# Altium footprint library 10147606-0000xLF.PcbLib: 19 footprints (part 1 of 2)
Each footprint in its own frame and in the unit in brackets; x right, y up, seen from the top. Pads: shape width x height; smd on the part's side, far side on the other; paste and mask are expansions set on the pad; w line width, h text height; cw(c..) or ccw(c..) is an arc to the next point about the centre after c.
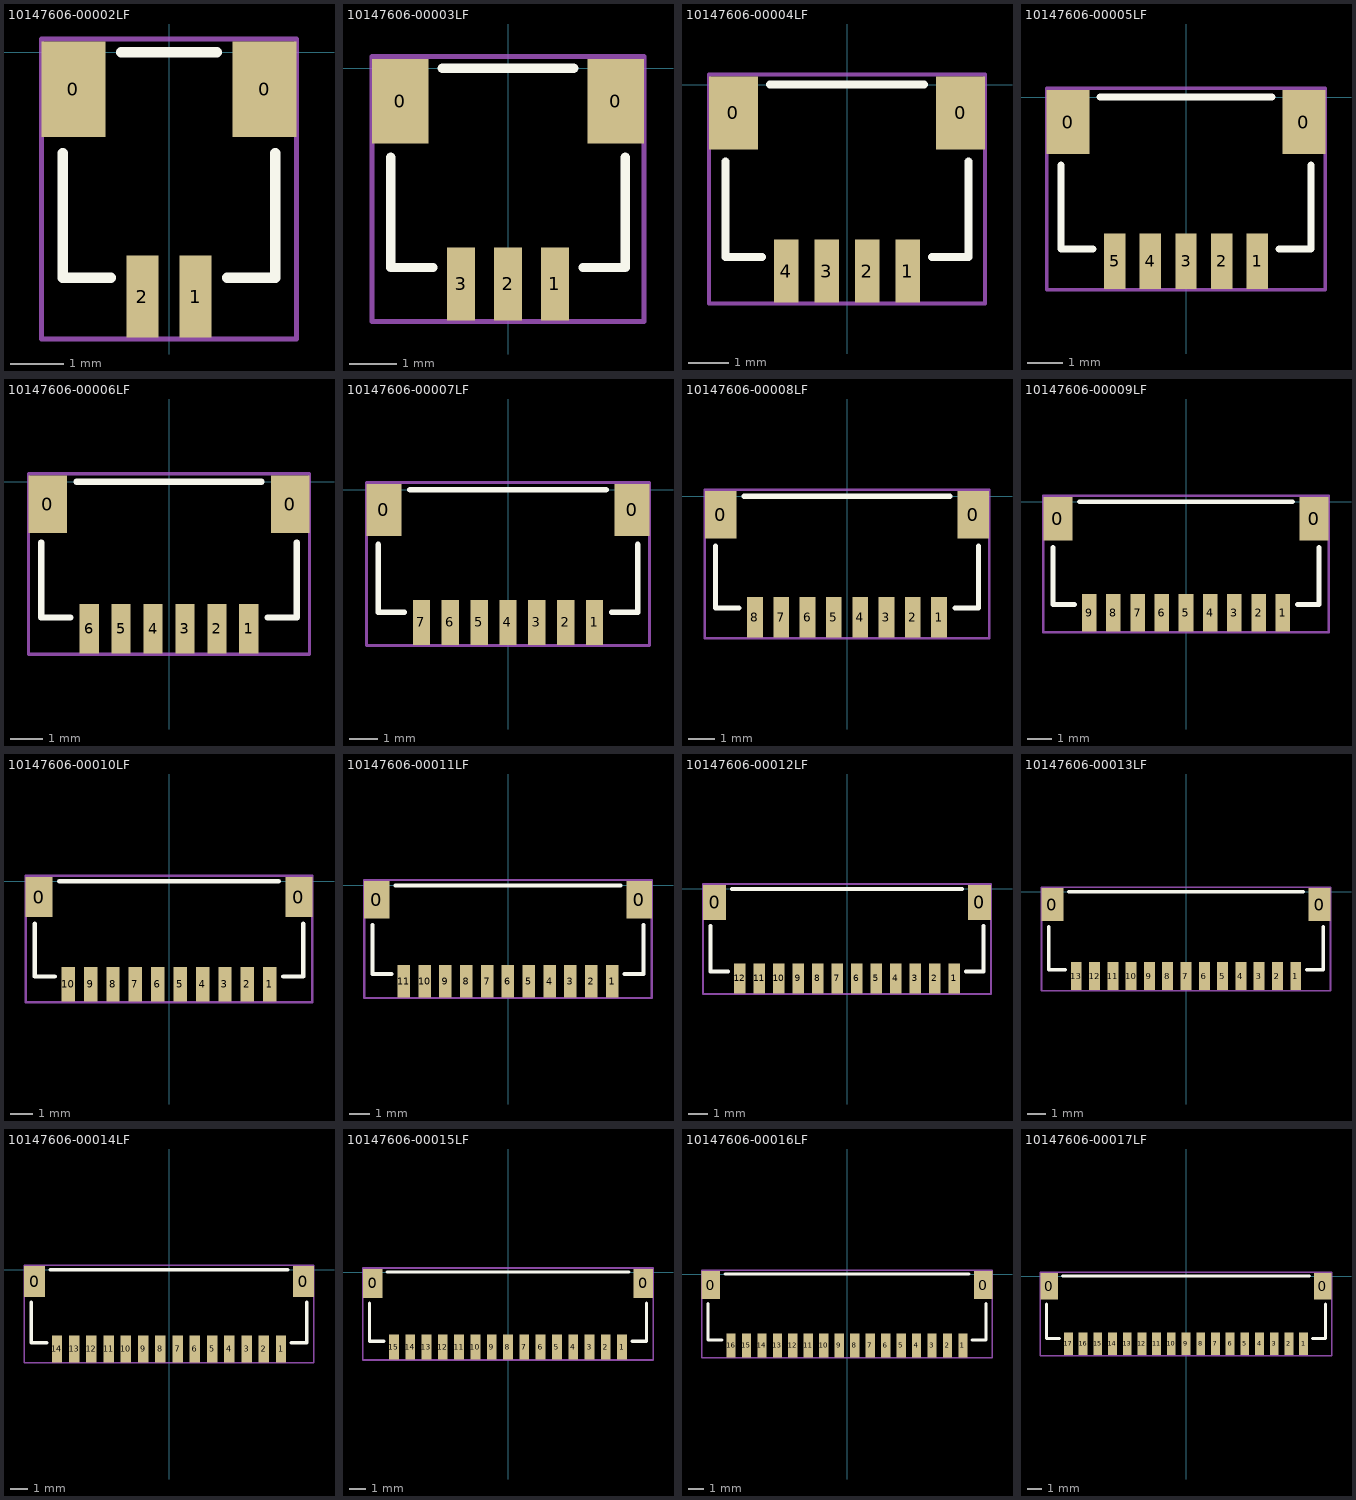
[diagram p0: the footprints below, top view; thin cyan lines are the x and y axes]

## 10147606-00002LF [mm]
pads (4):
  rect 1.2x1.8 smd: 0(-1.8,-0.7) 0(1.8,-0.7)
  rect 0.6x1.55 smd: 1(0.5,-4.6) 2(-0.5,-4.6)
Top Overlay:
  lines w0.2: -2,-1.9 -2,-4.25 -1.1,-4.25 ; -0.9,0 0.9,0 ; 1.1,-4.25 2,-4.25 2,-1.9
Border:
  lines w0.1: -2.4,-5.4 2.4,-5.4 2.4,0.25 -2.4,0.25 -2.4,-5.4
3D body "10147606-00002LF.stp": height 3, standoff 0, extent -2,-4.95 2,0

## 10147606-00003LF [mm]
pads (5):
  rect 1.2x1.8 smd: 0(-2.3,-0.7) 0(2.3,-0.7)
  rect 0.6x1.55 smd: 1(1,-4.6) 2(0,-4.6) 3(-1,-4.6)
Top Overlay:
  lines w0.2: -2.5,-1.9 -2.5,-4.25 -1.6,-4.25 ; -1.4,0 1.4,0 ; 1.6,-4.25 2.5,-4.25 2.5,-1.9
Border:
  lines w0.1: -2.9,-5.4 -2.9,0.25 2.9,0.25 2.9,-5.4 -2.9,-5.4
3D body "10147606-00003LF.stp": height 3, standoff 0, extent -2.5,-4.95 2.5,0

## 10147606-00004LF [mm]
pads (6):
  rect 1.2x1.8 smd: 0(-2.8,-0.7) 0(2.8,-0.7)
  rect 0.6x1.55 smd: 1(1.5,-4.6) 2(0.5,-4.6) 3(-0.5,-4.6) 4(-1.5,-4.6)
Top Overlay:
  lines w0.2: -3,-1.9 -3,-4.25 -2.1,-4.25 ; -1.9,0 1.9,0 ; 2.1,-4.25 3,-4.25 3,-1.9
Border:
  lines w0.1: -3.4,-5.4 -3.4,0.25 3.4,0.25 3.4,-5.4 -3.4,-5.4
3D body "10147606-00004LF.stp": height 3, standoff 0, extent -3,-4.95 3,0

## 10147606-00005LF [mm]
pads (7):
  rect 1.2x1.8 smd: 0(-3.3,-0.7) 0(3.3,-0.7)
  rect 0.6x1.55 smd: 1(2,-4.6) 2(1,-4.6) 3(0,-4.6) 4(-1,-4.6) 5(-2,-4.6)
Top Overlay:
  lines w0.2: -3.5,-1.9 -3.5,-4.25 -2.6,-4.25 ; -2.4,0 2.4,0 ; 2.6,-4.25 3.5,-4.25 3.5,-1.9
Border:
  lines w0.1: -3.9,-5.4 3.9,-5.4 3.9,0.25 -3.9,0.25 -3.9,-5.4
3D body "10147606-00005LF.stp": height 3, standoff 0, extent -3.5,-4.95 3.5,0

## 10147606-00006LF [mm]
pads (8):
  rect 1.2x1.8 smd: 0(-3.8,-0.7) 0(3.8,-0.7)
  rect 0.6x1.55 smd: 1(2.5,-4.6) 2(1.5,-4.6) 3(0.5,-4.6) 4(-0.5,-4.6) 5(-1.5,-4.6) 6(-2.5,-4.6)
Top Overlay:
  lines w0.2: -4,-1.9 -4,-4.25 -3.1,-4.25 ; -2.9,0 2.9,0 ; 3.1,-4.25 4,-4.25 4,-1.9
Border:
  lines w0.1: -4.4,-5.4 4.4,-5.4 4.4,0.25 -4.4,0.25 -4.4,-5.4
3D body "10147606-00006LF.stp": height 3, standoff 0, extent -4,-4.95 4,0

## 10147606-00007LF [mm]
pads (9):
  rect 1.2x1.8 smd: 0(-4.3,-0.7) 0(4.3,-0.7)
  rect 0.6x1.55 smd: 1(3,-4.6) 2(2,-4.6) 3(1,-4.6) 4(0,-4.6) 5(-1,-4.6) 6(-2,-4.6) 7(-3,-4.6)
Top Overlay:
  lines w0.2: -4.5,-1.9 -4.5,-4.25 -3.6,-4.25 ; -3.4,0 3.4,0 ; 3.6,-4.25 4.5,-4.25 4.5,-1.9
Border:
  lines w0.1: -4.9,-5.4 -4.9,0.25 4.9,0.25 4.9,-5.4 -4.9,-5.4
3D body "10147606-00007LF.stp": height 3, standoff 0, extent -4.5,-4.95 4.5,0

## 10147606-00008LF [mm]
pads (10):
  rect 1.2x1.8 smd: 0(-4.8,-0.7) 0(4.8,-0.7)
  rect 0.6x1.55 smd: 1(3.5,-4.6) 2(2.5,-4.6) 3(1.5,-4.6) 4(0.5,-4.6) 5(-0.5,-4.6) 6(-1.5,-4.6) 7(-2.5,-4.6) 8(-3.5,-4.6)
Top Overlay:
  lines w0.2: -5,-1.9 -5,-4.25 -4.1,-4.25 ; -3.9,0 3.9,0 ; 4.1,-4.25 5,-4.25 5,-1.9
Border:
  lines w0.1: -5.4,-5.4 5.4,-5.4 5.4,0.25 -5.4,0.25 -5.4,-5.4
3D body "10147606-00008LF.stp": height 3, standoff 0, extent -5,-4.95 5,0

## 10147606-00009LF [mm]
pads (11):
  rect 1.2x1.8 smd: 0(-5.3,-0.7) 0(5.3,-0.7)
  rect 0.6x1.55 smd: 1(4,-4.6) 2(3,-4.6) 3(2,-4.6) 4(1,-4.6) 5(0,-4.6) 6(-1,-4.6) 7(-2,-4.6) 8(-3,-4.6) 9(-4,-4.6)
Top Overlay:
  lines w0.2: -5.5,-1.9 -5.5,-4.25 -4.6,-4.25 ; -4.4,0 4.4,0 ; 4.6,-4.25 5.5,-4.25 5.5,-1.9
Border:
  lines w0.1: -5.9,-5.4 -5.9,0.25 5.9,0.25 5.9,-5.4 -5.9,-5.4
3D body "10147606-00009LF.stp": height 3, standoff 0, extent -5.5,-4.95 5.5,0

## 10147606-00010LF [mm]
pads (12):
  rect 1.2x1.8 smd: 0(-5.8,-0.7) 0(5.8,-0.7)
  rect 0.6x1.55 smd: 1(4.5,-4.6) 2(3.5,-4.6) 3(2.5,-4.6) 4(1.5,-4.6) 5(0.5,-4.6) 6(-0.5,-4.6) 7(-1.5,-4.6) 8(-2.5,-4.6) 9(-3.5,-4.6) 10(-4.5,-4.6)
Top Overlay:
  lines w0.2: -6,-1.9 -6,-4.25 -5.1,-4.25 ; -4.9,0 4.9,0 ; 5.1,-4.25 6,-4.25 6,-1.9
Border:
  lines w0.1: -6.4,-5.4 6.4,-5.4 6.4,0.25 -6.4,0.25 -6.4,-5.4
3D body "10147606-00010LF.stp": height 3, standoff 0, extent -6,-4.95 6,0

## 10147606-00011LF [mm]
pads (13):
  rect 1.2x1.8 smd: 0(-6.3,-0.7) 0(6.3,-0.7)
  rect 0.6x1.55 smd: 1(5,-4.6) 2(4,-4.6) 3(3,-4.6) 4(2,-4.6) 5(1,-4.6) 6(0,-4.6) 7(-1,-4.6) 8(-2,-4.6) 9(-3,-4.6) 10(-4,-4.6) 11(-5,-4.6)
Top Overlay:
  lines w0.2: -6.5,-1.9 -6.5,-4.25 -5.6,-4.25 ; -5.4,0 5.4,0 ; 5.6,-4.25 6.5,-4.25 6.5,-1.9
Border:
  lines w0.1: -6.9,-5.4 -6.9,0.25 6.9,0.25 6.9,-5.4 -6.9,-5.4
3D body "10147606-00011LF.stp": height 3, standoff 0, extent -6.5,-4.95 6.5,0

## 10147606-00012LF [mm]
pads (14):
  rect 1.2x1.8 smd: 0(-6.8,-0.7) 0(6.8,-0.7)
  rect 0.6x1.55 smd: 1(5.5,-4.6) 2(4.5,-4.6) 3(3.5,-4.6) 4(2.5,-4.6) 5(1.5,-4.6) 6(0.5,-4.6) 7(-0.5,-4.6) 8(-1.5,-4.6) 9(-2.5,-4.6) 10(-3.5,-4.6) 11(-4.5,-4.6) 12(-5.5,-4.6)
Top Overlay:
  lines w0.2: -7,-1.9 -7,-4.25 -6.1,-4.25 ; -5.9,0 5.9,0 ; 6.1,-4.25 7,-4.25 7,-1.9
Border:
  lines w0.1: -7.4,-5.4 -7.4,0.25 7.4,0.25 7.4,-5.4 -7.4,-5.4
3D body "10147606-00012LF.stp": height 3, standoff 0, extent -7,-4.95 7,0

## 10147606-00013LF [mm]
pads (15):
  rect 1.2x1.8 smd: 0(-7.3,-0.7) 0(7.3,-0.7)
  rect 0.6x1.55 smd: 1(6,-4.6) 2(5,-4.6) 3(4,-4.6) 4(3,-4.6) 5(2,-4.6) 6(1,-4.6) 7(0,-4.6) 8(-1,-4.6) 9(-2,-4.6) 10(-3,-4.6) 11(-4,-4.6) 12(-5,-4.6) 13(-6,-4.6)
Top Overlay:
  lines w0.2: -7.5,-1.9 -7.5,-4.25 -6.6,-4.25 ; -6.4,0 6.4,0 ; 6.6,-4.25 7.5,-4.25 7.5,-1.9
Border:
  lines w0.1: -7.9,-5.4 -7.9,0.25 7.9,0.25 7.9,-5.4 -7.9,-5.4
3D body "10147606-00013LF.stp": height 3, standoff 0, extent -7.5,-4.95 7.5,0

## 10147606-00014LF [mm]
pads (16):
  rect 1.2x1.8 smd: 0(-7.8,-0.7) 0(7.8,-0.7)
  rect 0.6x1.55 smd: 1(6.5,-4.6) 2(5.5,-4.6) 3(4.5,-4.6) 4(3.5,-4.6) 5(2.5,-4.6) 6(1.5,-4.6) 7(0.5,-4.6) 8(-0.5,-4.6) 9(-1.5,-4.6) 10(-2.5,-4.6) 11(-3.5,-4.6) 12(-4.5,-4.6) 13(-5.5,-4.6) 14(-6.5,-4.6)
Top Overlay:
  lines w0.2: -8,-1.9 -8,-4.25 -7.1,-4.25 ; -6.9,0 6.9,0 ; 7.1,-4.25 8,-4.25 8,-1.9
Border:
  lines w0.1: -8.4,-5.4 8.4,-5.4 8.4,0.25 -8.4,0.25 -8.4,-5.4
3D body "10147606-00014LF.stp": height 3, standoff 0, extent -8,-4.95 8,0

## 10147606-00015LF [mm]
pads (17):
  rect 1.2x1.8 smd: 0(-8.3,-0.7) 0(8.3,-0.7)
  rect 0.6x1.55 smd: 1(7,-4.6) 2(6,-4.6) 3(5,-4.6) 4(4,-4.6) 5(3,-4.6) 6(2,-4.6) 7(1,-4.6) 8(0,-4.6) 9(-1,-4.6) 10(-2,-4.6) 11(-3,-4.6) 12(-4,-4.6) 13(-5,-4.6) 14(-6,-4.6) 15(-7,-4.6)
Top Overlay:
  lines w0.2: -8.5,-1.9 -8.5,-4.25 -7.6,-4.25 ; -7.4,0 7.4,0 ; 7.6,-4.25 8.5,-4.25 8.5,-1.9
Border:
  lines w0.1: -8.9,-5.4 8.9,-5.4 8.9,0.25 -8.9,0.25 -8.9,-5.4
3D body "10147606-00015LF.stp": height 3, standoff 0, extent -8.5,-4.95 8.5,0

## 10147606-00016LF [mm]
pads (18):
  rect 1.2x1.8 smd: 0(-8.8,-0.7) 0(8.8,-0.7)
  rect 0.6x1.55 smd: 1(7.5,-4.6) 2(6.5,-4.6) 3(5.5,-4.6) 4(4.5,-4.6) 5(3.5,-4.6) 6(2.5,-4.6) 7(1.5,-4.6) 8(0.5,-4.6) 9(-0.5,-4.6) 10(-1.5,-4.6) 11(-2.5,-4.6) 12(-3.5,-4.6) 13(-4.5,-4.6) 14(-5.5,-4.6) 15(-6.5,-4.6) 16(-7.5,-4.6)
Top Overlay:
  lines w0.2: -9,-1.9 -9,-4.25 -8.1,-4.25 ; -7.9,0 7.9,0 ; 8.1,-4.25 9,-4.25 9,-1.9
Border:
  lines w0.1: -9.4,-5.4 -9.4,0.25 9.4,0.25 9.4,-5.4 -9.4,-5.4
3D body "10147606-00016LF.stp": height 3, standoff 0, extent -9,-4.95 9,0

## 10147606-00017LF [mm]
pads (19):
  rect 1.2x1.8 smd: 0(-9.3,-0.7) 0(9.3,-0.7)
  rect 0.6x1.55 smd: 1(8,-4.6) 2(7,-4.6) 3(6,-4.6) 4(5,-4.6) 5(4,-4.6) 6(3,-4.6) 7(2,-4.6) 8(1,-4.6) 9(0,-4.6) 10(-1,-4.6) 11(-2,-4.6) 12(-3,-4.6) 13(-4,-4.6) 14(-5,-4.6) 15(-6,-4.6) 16(-7,-4.6) 17(-8,-4.6)
Top Overlay:
  lines w0.2: -9.5,-1.9 -9.5,-4.25 -8.6,-4.25 ; -8.4,0 8.4,0 ; 8.6,-4.25 9.5,-4.25 9.5,-1.9
Border:
  lines w0.1: -9.9,-5.4 9.9,-5.4 9.9,0.25 -9.9,0.25 -9.9,-5.4
3D body "10147606-00017LF.stp": height 3, standoff 0, extent -9.5,-4.95 9.5,0